# Altium schematic symbol library 2N7002.SchLib: 1 symbol
Pins are listed as number, name and electrical type; pins without a type are passive.

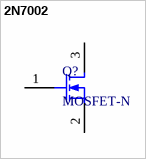
[diagram p0: symbol 2N7002]

## 2N7002
designator Q?, comment MOSFET-N
NXP - 2N7002 - MOSFET,N CH, 60V,0.3A,SOT23; farnell: 1510761
footprint 2N7002 (N channel MOSFET)
pins: 1 G, 2 S, 3 D